# EAGLE library part TPS61221DCKT (library TPS61221DCKT)
LOW INPUT VOLTAGE STEP-UP CONVERTER
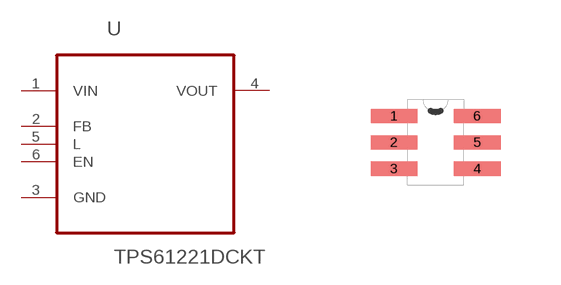
[diagram p0: symbol with the pads of SOT65P210X110-6N; footprint SOT65P210X110-6N]

Designator prefix U

## TPS61221DCKT (Availability: Unavailable; Description: Tiny Low Input Voltage Boost Converter 6-SC70 -40 to 85; MF: Texas Instruments; MP: TPS61221DCK; Package: None; Price: None)  [SOT65P210X110-6N]
1  VIN  in
2  FB  in
3  GND  pas
4  VOUT  out
5  L  pas
6  EN  in

## Footprint SOT65P210X110-6N (pad centres in mm)
smd 1.168 x 0.356: 1 -1.041,0.66; 2 -1.041,0; 3 -1.041,-0.66; 4 1.041,-0.66; 5 1.041,0; 6 1.041,0.66